# Altium schematic symbol library BJT_NPN_EBC.SchLib: 1 symbol
Pins are listed as number, name and electrical type; pins without a type are passive.

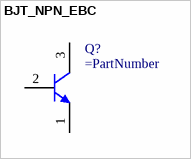
[diagram p0: symbol BJT_NPN_EBC]

## BJT_NPN_EBC
designator Q?
pins: 1 E, 2 B, 3 C